# Altium integrated library NSC Interface.IntLib: 1288 symbols (part 23 of 45)
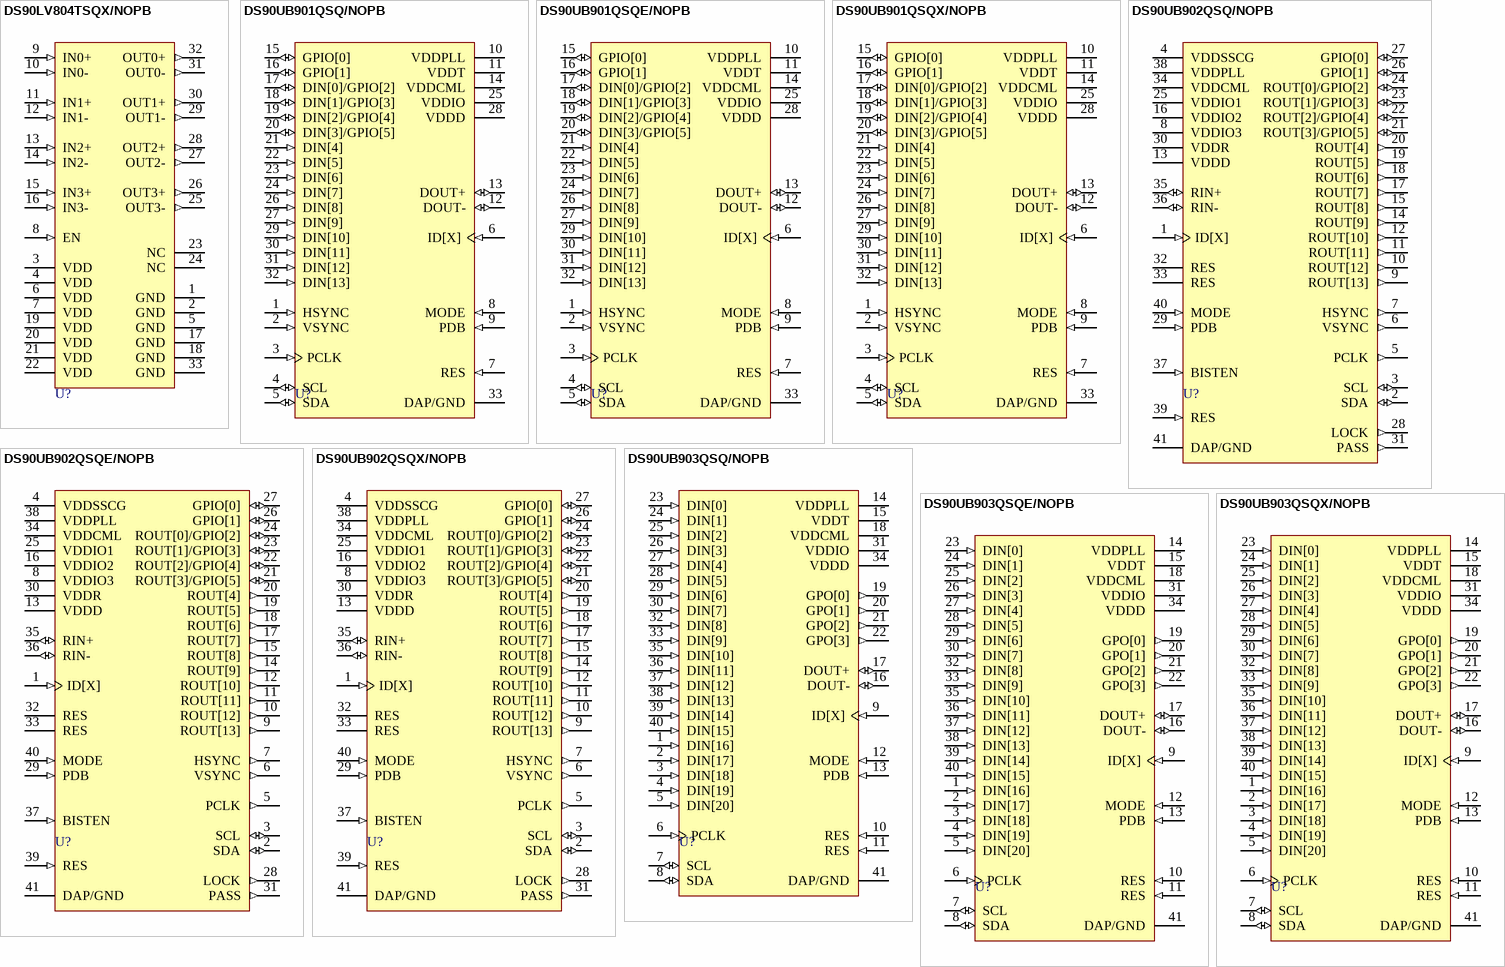
[diagram p134: symbols DS90LV804TSQX/NOPB to DS90UB903QSQX/NOPB]

## DS90UB902QSQ/NOPB
designator U?
10 - 43MHz 14 Bit Color FPD-Link III Deserializer with Bi-Directional Control Channel, 40 pin LLP; PartNumber: DS90UB902QSQ/NOPB; Manufacturer: National Semiconductor; PackageTopMarking: NS*UZXYTTE#*UB902QSQ; PowerWise: N; CompType: Interface IC; Published: 16-Nov-2010; DatasheetVersion: Sep-2010; PackageVersion: revB, Mar-2004; PackageReference: SQA40A; Publisher: Altium Limited; PackageDescription: LLP, Plastic, Quad, 6 x 6 x 0.8mm Body, 40 Lead, 0.5mm Pitch, No Pullback; RoHS: Y; PinCount: 40; ComponentLink1Description: DS90UB902Q Datasheet; ComponentLink1URL: http://www.national.com/ds/DS/DS90UB902Q.pdf; ComponentLink2Description: DS90UB902Q Web Page; ComponentLink2URL: http://www.national.com/pf/DS/DS90UB902Q.html; ComponentLink3Description: SQA40A Package Page; ComponentLink3URL: http://www.national.com/packaging/folders/sqa40a.html
footprint SQA40A (QFN, 40-Leads, Body 6x6mm, Pitch 0.5mm, NSC Recommended)
pins: 1 ID[X] (in), 2 SDA (io), 3 SCL (io), 4 VDDSSCG (power), 5 PCLK (out), 6 VSYNC (out), 7 HSYNC (out), 8 VDDIO3 (power), 9 ROUT[13] (out), 10 ROUT[12] (out), 11 ROUT[11] (out), 12 ROUT[10] (out), 13 VDDD (power), 14 ROUT[9] (out), 15 ROUT[8] (out), 16 VDDIO2 (power), 17 ROUT[7] (out), 18 ROUT[6] (out), 19 ROUT[5] (out), 20 ROUT[4] (out), 21 ROUT[3]/GPIO[5] (io), 22 ROUT[2]/GPIO[4] (io), 23 ROUT[1]/GPIO[3] (io), 24 ROUT[0]/GPIO[2] (io), 25 VDDIO1 (power), 26 GPIO[1] (io), 27 GPIO[0] (io), 28 LOCK (out), 29 PDB (in), 30 VDDR (power), 31 PASS (out), 32 RES, 33 RES, 34 VDDCML (power), 35 RIN+ (io), 36 RIN- (io), 37 BISTEN (in), 38 VDDPLL (power), 39 RES (in), 40 MODE (in), 41 DAP/GND (power)

## DS90UB902QSQE/NOPB
designator U?
10 - 43MHz 14 Bit Color FPD-Link III Deserializer with Bi-Directional Control Channel, 40 pin LLP; PartNumber: DS90UB902QSQE/NOPB; Manufacturer: National Semiconductor; PackageTopMarking: NS*UZXYTTE#*UB902QSQ; PowerWise: N; CompType: Interface IC; Published: 16-Nov-2010; DatasheetVersion: Sep-2010; PackageVersion: revB, Mar-2004; PackageReference: SQA40A; Publisher: Altium Limited; PackageDescription: LLP, Plastic, Quad, 6 x 6 x 0.8mm Body, 40 Lead, 0.5mm Pitch, No Pullback; RoHS: Y; PinCount: 40; ComponentLink1Description: DS90UB902Q Datasheet; ComponentLink1URL: http://www.national.com/ds/DS/DS90UB902Q.pdf; ComponentLink2Description: DS90UB902Q Web Page; ComponentLink2URL: http://www.national.com/pf/DS/DS90UB902Q.html; ComponentLink3Description: SQA40A Package Page; ComponentLink3URL: http://www.national.com/packaging/folders/sqa40a.html
footprint SQA40A (QFN, 40-Leads, Body 6x6mm, Pitch 0.5mm, NSC Recommended)
pins: 1 ID[X] (in), 2 SDA (io), 3 SCL (io), 4 VDDSSCG (power), 5 PCLK (out), 6 VSYNC (out), 7 HSYNC (out), 8 VDDIO3 (power), 9 ROUT[13] (out), 10 ROUT[12] (out), 11 ROUT[11] (out), 12 ROUT[10] (out), 13 VDDD (power), 14 ROUT[9] (out), 15 ROUT[8] (out), 16 VDDIO2 (power), 17 ROUT[7] (out), 18 ROUT[6] (out), 19 ROUT[5] (out), 20 ROUT[4] (out), 21 ROUT[3]/GPIO[5] (io), 22 ROUT[2]/GPIO[4] (io), 23 ROUT[1]/GPIO[3] (io), 24 ROUT[0]/GPIO[2] (io), 25 VDDIO1 (power), 26 GPIO[1] (io), 27 GPIO[0] (io), 28 LOCK (out), 29 PDB (in), 30 VDDR (power), 31 PASS (out), 32 RES, 33 RES, 34 VDDCML (power), 35 RIN+ (io), 36 RIN- (io), 37 BISTEN (in), 38 VDDPLL (power), 39 RES (in), 40 MODE (in), 41 DAP/GND (power)

## DS90UB902QSQX/NOPB
designator U?
10 - 43MHz 14 Bit Color FPD-Link III Deserializer with Bi-Directional Control Channel, 40 pin LLP; PartNumber: DS90UB902QSQX/NOPB; Manufacturer: National Semiconductor; PackageTopMarking: NS*UZXYTTE#*UB902QSQ; PowerWise: N; CompType: Interface IC; Published: 16-Nov-2010; DatasheetVersion: Sep-2010; PackageVersion: revB, Mar-2004; PackageReference: SQA40A; Publisher: Altium Limited; PackageDescription: LLP, Plastic, Quad, 6 x 6 x 0.8mm Body, 40 Lead, 0.5mm Pitch, No Pullback; RoHS: Y; PinCount: 40; ComponentLink1Description: DS90UB902Q Datasheet; ComponentLink1URL: http://www.national.com/ds/DS/DS90UB902Q.pdf; ComponentLink2Description: DS90UB902Q Web Page; ComponentLink2URL: http://www.national.com/pf/DS/DS90UB902Q.html; ComponentLink3Description: SQA40A Package Page; ComponentLink3URL: http://www.national.com/packaging/folders/sqa40a.html
footprint SQA40A (QFN, 40-Leads, Body 6x6mm, Pitch 0.5mm, NSC Recommended)
pins: 1 ID[X] (in), 2 SDA (io), 3 SCL (io), 4 VDDSSCG (power), 5 PCLK (out), 6 VSYNC (out), 7 HSYNC (out), 8 VDDIO3 (power), 9 ROUT[13] (out), 10 ROUT[12] (out), 11 ROUT[11] (out), 12 ROUT[10] (out), 13 VDDD (power), 14 ROUT[9] (out), 15 ROUT[8] (out), 16 VDDIO2 (power), 17 ROUT[7] (out), 18 ROUT[6] (out), 19 ROUT[5] (out), 20 ROUT[4] (out), 21 ROUT[3]/GPIO[5] (io), 22 ROUT[2]/GPIO[4] (io), 23 ROUT[1]/GPIO[3] (io), 24 ROUT[0]/GPIO[2] (io), 25 VDDIO1 (power), 26 GPIO[1] (io), 27 GPIO[0] (io), 28 LOCK (out), 29 PDB (in), 30 VDDR (power), 31 PASS (out), 32 RES, 33 RES, 34 VDDCML (power), 35 RIN+ (io), 36 RIN- (io), 37 BISTEN (in), 38 VDDPLL (power), 39 RES (in), 40 MODE (in), 41 DAP/GND (power)

## DS90UB903QSQ/NOPB
designator U?
10 - 43MHz 18 Bit Color FPD-Link III Serializer with Bi-Directional Control Channel, 40 pin LLP; PartNumber: DS90UB903QSQ/NOPB; Manufacturer: National Semiconductor; PackageTopMarking: NS*UZXYTTE#*UB903QSQ; PowerWise: N; CompType: Interface IC; Published: 16-Nov-2010; DatasheetVersion: Sep-2010; PackageVersion: revB, Mar-2004; PackageReference: SQA40A; Publisher: Altium Limited; PackageDescription: LLP, Plastic, Quad, 6 x 6 x 0.8mm Body, 40 Lead, 0.5mm Pitch, No Pullback; RoHS: Y; PinCount: 40; ComponentLink1Description: DS90UB903Q Datasheet; ComponentLink1URL: http://www.national.com/ds/DS/DS90UB903Q.pdf; ComponentLink2Description: DS90UB903Q Web Page; ComponentLink2URL: http://www.national.com/pf/DS/DS90UB903Q.html; ComponentLink3Description: SQA40A Package Page; ComponentLink3URL: http://www.national.com/packaging/folders/sqa40a.html
footprint SQA40A (QFN, 40-Leads, Body 6x6mm, Pitch 0.5mm, NSC Recommended)
pins: 1 DIN[16] (in), 2 DIN[17] (in), 3 DIN[18] (in), 4 DIN[19] (in), 5 DIN[20] (in), 6 PCLK (in), 7 SCL (io), 8 SDA (io), 9 ID[X] (in), 10 RES (in), 11 RES (in), 12 MODE (in), 13 PDB (in), 14 VDDPLL (power), 15 VDDT (power), 16 DOUT- (io), 17 DOUT+ (io), 18 VDDCML (power), 19 GPO[0] (out), 20 GPO[1] (out), 21 GPO[2] (out), 22 GPO[3] (out), 23 DIN[0] (in), 24 DIN[1] (in), 25 DIN[2] (in), 26 DIN[3] (in), 27 DIN[4] (in), 28 DIN[5] (in), 29 DIN[6] (in), 30 DIN[7] (in), 31 VDDIO (power), 32 DIN[8] (in), 33 DIN[9] (in), 34 VDDD (power), 35 DIN[10] (in), 36 DIN[11] (in), 37 DIN[12] (in), 38 DIN[13] (in), 39 DIN[14] (in), 40 DIN[15] (in), 41 DAP/GND (power)

## DS90UB903QSQE/NOPB
designator U?
10 - 43MHz 18 Bit Color FPD-Link III Serializer with Bi-Directional Control Channel, 40 pin LLP; PartNumber: DS90UB903QSQE/NOPB; Manufacturer: National Semiconductor; PackageTopMarking: NS*UZXYTTE#*UB903QSQ; PowerWise: N; CompType: Interface IC; Published: 16-Nov-2010; DatasheetVersion: Sep-2010; PackageVersion: revB, Mar-2004; PackageReference: SQA40A; Publisher: Altium Limited; PackageDescription: LLP, Plastic, Quad, 6 x 6 x 0.8mm Body, 40 Lead, 0.5mm Pitch, No Pullback; RoHS: Y; PinCount: 40; ComponentLink1Description: DS90UB903Q Datasheet; ComponentLink1URL: http://www.national.com/ds/DS/DS90UB903Q.pdf; ComponentLink2Description: DS90UB903Q Web Page; ComponentLink2URL: http://www.national.com/pf/DS/DS90UB903Q.html; ComponentLink3Description: SQA40A Package Page; ComponentLink3URL: http://www.national.com/packaging/folders/sqa40a.html
footprint SQA40A (QFN, 40-Leads, Body 6x6mm, Pitch 0.5mm, NSC Recommended)
pins: 1 DIN[16] (in), 2 DIN[17] (in), 3 DIN[18] (in), 4 DIN[19] (in), 5 DIN[20] (in), 6 PCLK (in), 7 SCL (io), 8 SDA (io), 9 ID[X] (in), 10 RES (in), 11 RES (in), 12 MODE (in), 13 PDB (in), 14 VDDPLL (power), 15 VDDT (power), 16 DOUT- (io), 17 DOUT+ (io), 18 VDDCML (power), 19 GPO[0] (out), 20 GPO[1] (out), 21 GPO[2] (out), 22 GPO[3] (out), 23 DIN[0] (in), 24 DIN[1] (in), 25 DIN[2] (in), 26 DIN[3] (in), 27 DIN[4] (in), 28 DIN[5] (in), 29 DIN[6] (in), 30 DIN[7] (in), 31 VDDIO (power), 32 DIN[8] (in), 33 DIN[9] (in), 34 VDDD (power), 35 DIN[10] (in), 36 DIN[11] (in), 37 DIN[12] (in), 38 DIN[13] (in), 39 DIN[14] (in), 40 DIN[15] (in), 41 DAP/GND (power)

## DS90UB903QSQX/NOPB
designator U?
10 - 43MHz 18 Bit Color FPD-Link III Serializer with Bi-Directional Control Channel, 40 pin LLP; PartNumber: DS90UB903QSQX/NOPB; Manufacturer: National Semiconductor; PackageTopMarking: NS*UZXYTTE#*UB903QSQ; PowerWise: N; CompType: Interface IC; Published: 16-Nov-2010; DatasheetVersion: Sep-2010; PackageVersion: revB, Mar-2004; PackageReference: SQA40A; Publisher: Altium Limited; PackageDescription: LLP, Plastic, Quad, 6 x 6 x 0.8mm Body, 40 Lead, 0.5mm Pitch, No Pullback; RoHS: Y; PinCount: 40; ComponentLink1Description: DS90UB903Q Datasheet; ComponentLink1URL: http://www.national.com/ds/DS/DS90UB903Q.pdf; ComponentLink2Description: DS90UB903Q Web Page; ComponentLink2URL: http://www.national.com/pf/DS/DS90UB903Q.html; ComponentLink3Description: SQA40A Package Page; ComponentLink3URL: http://www.national.com/packaging/folders/sqa40a.html
footprint SQA40A (QFN, 40-Leads, Body 6x6mm, Pitch 0.5mm, NSC Recommended)
pins: 1 DIN[16] (in), 2 DIN[17] (in), 3 DIN[18] (in), 4 DIN[19] (in), 5 DIN[20] (in), 6 PCLK (in), 7 SCL (io), 8 SDA (io), 9 ID[X] (in), 10 RES (in), 11 RES (in), 12 MODE (in), 13 PDB (in), 14 VDDPLL (power), 15 VDDT (power), 16 DOUT- (io), 17 DOUT+ (io), 18 VDDCML (power), 19 GPO[0] (out), 20 GPO[1] (out), 21 GPO[2] (out), 22 GPO[3] (out), 23 DIN[0] (in), 24 DIN[1] (in), 25 DIN[2] (in), 26 DIN[3] (in), 27 DIN[4] (in), 28 DIN[5] (in), 29 DIN[6] (in), 30 DIN[7] (in), 31 VDDIO (power), 32 DIN[8] (in), 33 DIN[9] (in), 34 VDDD (power), 35 DIN[10] (in), 36 DIN[11] (in), 37 DIN[12] (in), 38 DIN[13] (in), 39 DIN[14] (in), 40 DIN[15] (in), 41 DAP/GND (power)

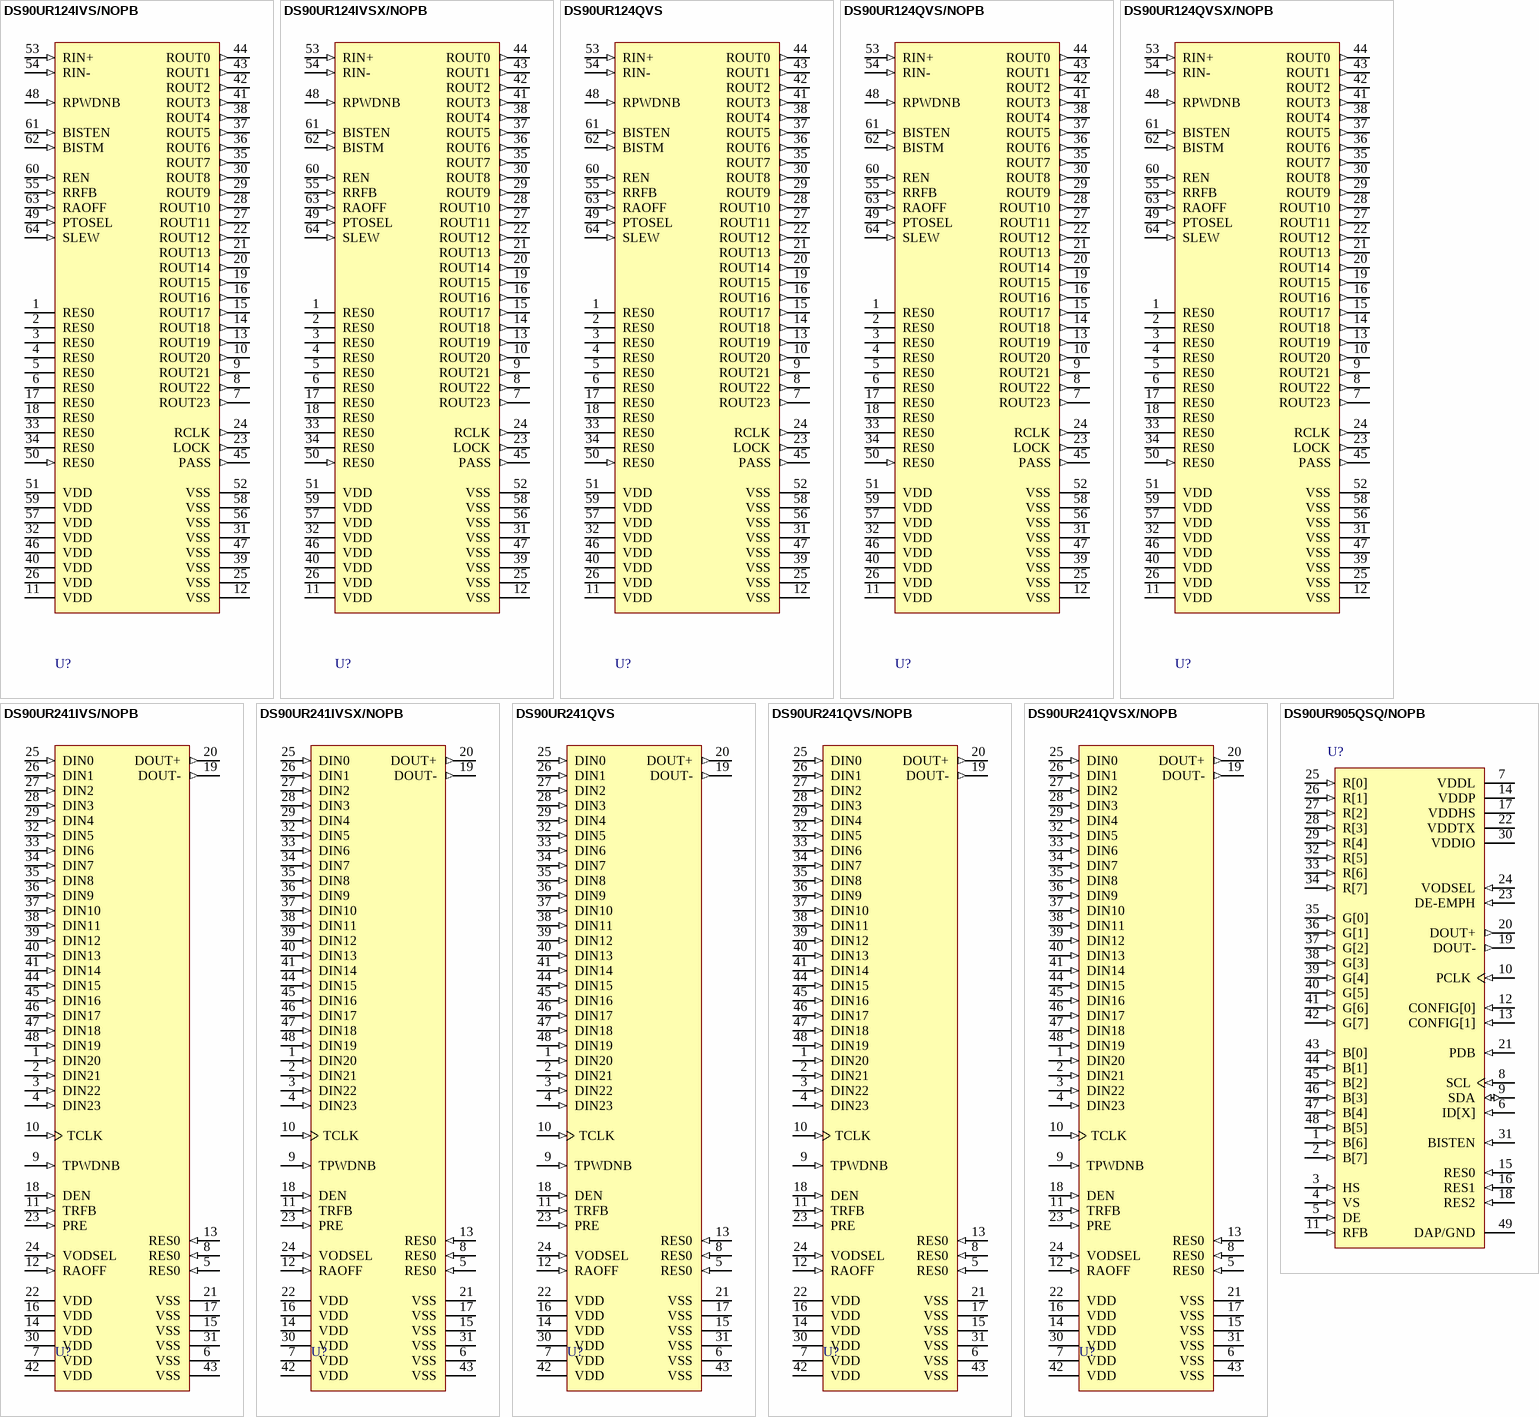
[diagram p61: symbols DS90UR124IVS/NOPB to DS90UR905QSQ/NOPB]

## DS90UR124IVS/NOPB
designator U?
5-43MHz DC-Balanced 24-Bit FPD-Link II Deserializer, 64 pin TQFP; PartNumber: DS90UR124IVS/NOPB; Manufacturer: National Semiconductor; PackageTopMarking: NSUZXYYTTE#*DS90UR124*IVS; PowerWise: N; CompType: Interface IC; Published: 16-Nov-2010; DatasheetVersion: Sep-2009; PackageVersion: revB, Jul-2003; PackageReference: VEC64A; Publisher: Altium Limited; PackageDescription: TQFP, Jedec Metric, 10 x 10 x 1.0mm, 64 Lead, 0.5mm Pitch; Supplier 1: Digi-Key; Supplier Part Number 1: DS90UR124IVS-ND; Supplier 2: Farnell; Supplier Part Number 2: 1559270; RoHS: Y; PinCount: 64; Code_JEDEC: MS-026-ACD; ComponentLink1Description: DS90UR124 Datasheet; ComponentLink1URL: http://www.national.com/ds/DS/DS90UR124.pdf; ComponentLink2Description: DS90UR124 Web Page; ComponentLink2URL: http://www.national.com/pf/DS/DS90UR124.html; ComponentLink3Description: VEC64A Package Page; ComponentLink3URL: http://www.national.com/packaging/folders/vec64a.html
footprint VEC64A_N (Thin QFP, 64-Leads, Body 10x10mm, Pitch 0.5mm, IPC Medium Density)
footprint VEC64A_L (Thin QFP, 64-Leads, Body 10x10mm, Pitch 0.5mm, IPC High Density)
footprint VEC64A_M (Thin QFP, 64-Leads, Body 10x10mm, Pitch 0.5mm, IPC Low Density)
pins: 1 RES0, 2 RES0, 3 RES0, 4 RES0, 5 RES0, 6 RES0, 7 ROUT23 (out), 8 ROUT22 (out), 9 ROUT21 (out), 10 ROUT20 (out), 11 VDD (power), 12 VSS (power), 13 ROUT19 (out), 14 ROUT18 (out), 15 ROUT17 (out), 16 ROUT16 (out), 17 RES0, 18 RES0, 19 ROUT15 (out), 20 ROUT14 (out), 21 ROUT13 (out), 22 ROUT12 (out), 23 LOCK (out), 24 RCLK (out), 25 VSS (power), 26 VDD (power), 27 ROUT11 (out), 28 ROUT10 (out), 29 ROUT9 (out), 30 ROUT8 (out), 31 VSS (power), 32 VDD (power), 33 RES0, 34 RES0, 35 ROUT7 (out), 36 ROUT6 (out), 37 ROUT5 (out), 38 ROUT4 (out), 39 VSS (power), 40 VDD (power), 41 ROUT3 (out), 42 ROUT2 (out), 43 ROUT1 (out), 44 ROUT0 (out), 45 PASS (out), 46 VDD (power), 47 VSS (power), 48 RPWDNB (in), 49 PTOSEL (in), 50 RES0 (in), 51 VDD (power), 52 VSS (power), 53 RIN+ (in), 54 RIN- (in), 55 RRFB (in), 56 VSS (power), 57 VDD (power), 58 VSS (power), 59 VDD (power), 60 REN (in), 61 BISTEN (in), 62 BISTM (in), 63 RAOFF (in), 64 SLEW (in)

## DS90UR124IVSX/NOPB
designator U?
5-43MHz DC-Balanced 24-Bit FPD-Link II Deserializer, 64 pin TQFP; PartNumber: DS90UR124IVSX/NOPB; Manufacturer: National Semiconductor; PackageTopMarking: NSUZXYYTTE#*DS90UR124*IVS; PowerWise: N; CompType: Interface IC; Published: 16-Nov-2010; DatasheetVersion: Sep-2009; PackageVersion: revB, Jul-2003; PackageReference: VEC64A; Publisher: Altium Limited; PackageDescription: TQFP, Jedec Metric, 10 x 10 x 1.0mm, 64 Lead, 0.5mm Pitch; Supplier 1: Digi-Key; Supplier Part Number 1: DS90UR124IVSX-ND; RoHS: Y; PinCount: 64; Code_JEDEC: MS-026-ACD; ComponentLink1Description: DS90UR124 Datasheet; ComponentLink1URL: http://www.national.com/ds/DS/DS90UR124.pdf; ComponentLink2Description: DS90UR124 Web Page; ComponentLink2URL: http://www.national.com/pf/DS/DS90UR124.html; ComponentLink3Description: VEC64A Package Page; ComponentLink3URL: http://www.national.com/packaging/folders/vec64a.html
footprint VEC64A_N (Thin QFP, 64-Leads, Body 10x10mm, Pitch 0.5mm, IPC Medium Density)
footprint VEC64A_L (Thin QFP, 64-Leads, Body 10x10mm, Pitch 0.5mm, IPC High Density)
footprint VEC64A_M (Thin QFP, 64-Leads, Body 10x10mm, Pitch 0.5mm, IPC Low Density)
pins: 1 RES0, 2 RES0, 3 RES0, 4 RES0, 5 RES0, 6 RES0, 7 ROUT23 (out), 8 ROUT22 (out), 9 ROUT21 (out), 10 ROUT20 (out), 11 VDD (power), 12 VSS (power), 13 ROUT19 (out), 14 ROUT18 (out), 15 ROUT17 (out), 16 ROUT16 (out), 17 RES0, 18 RES0, 19 ROUT15 (out), 20 ROUT14 (out), 21 ROUT13 (out), 22 ROUT12 (out), 23 LOCK (out), 24 RCLK (out), 25 VSS (power), 26 VDD (power), 27 ROUT11 (out), 28 ROUT10 (out), 29 ROUT9 (out), 30 ROUT8 (out), 31 VSS (power), 32 VDD (power), 33 RES0, 34 RES0, 35 ROUT7 (out), 36 ROUT6 (out), 37 ROUT5 (out), 38 ROUT4 (out), 39 VSS (power), 40 VDD (power), 41 ROUT3 (out), 42 ROUT2 (out), 43 ROUT1 (out), 44 ROUT0 (out), 45 PASS (out), 46 VDD (power), 47 VSS (power), 48 RPWDNB (in), 49 PTOSEL (in), 50 RES0 (in), 51 VDD (power), 52 VSS (power), 53 RIN+ (in), 54 RIN- (in), 55 RRFB (in), 56 VSS (power), 57 VDD (power), 58 VSS (power), 59 VDD (power), 60 REN (in), 61 BISTEN (in), 62 BISTM (in), 63 RAOFF (in), 64 SLEW (in)

## DS90UR124QVS
designator U?
5-43MHz DC- Balanced 24-Bit LVDS Deserializer, 64-pin TQFP; PartNumber: DS90UR124QVS; Manufacturer: National Semiconductor; PackageTopMarking: NSUZXYYTT*DS90UR124*QVS; PowerWise: N; CompType: Interface IC; Published: 4-Dec-2008; DatasheetVersion: Sep-2009; PackageVersion: revB, Jul-2003; PackageReference: VEC64A; Publisher: Altium Limited; PackageDescription: TQFP, Jedec Metric, 10 x 10 x 1.0mm, 64 Lead, 0.5mm Pitch; Supplier 1: Farnell; Supplier Part Number 1: 1589516; RoHS: Y; PinCount: 64; Code_JEDEC: MS-026-ACD; ComponentLink1Description: DS90UR124 Datasheet; ComponentLink1URL: http://www.national.com/ds/DS/DS90UR124.pdf; ComponentLink2Description: DS90UR124 Web Page; ComponentLink2URL: http://www.national.com/pf/DS/DS90UR124.html; ComponentLink3Description: VEC64A Package Page; ComponentLink3URL: http://www.national.com/packaging/folders/vec64a.html
footprint VEC64A_N (Thin QFP, 64-Leads, Body 10x10mm, Pitch 0.5mm, IPC Medium Density)
footprint VEC64A_L (Thin QFP, 64-Leads, Body 10x10mm, Pitch 0.5mm, IPC High Density)
footprint VEC64A_M (Thin QFP, 64-Leads, Body 10x10mm, Pitch 0.5mm, IPC Low Density)
pins: 1 RES0, 2 RES0, 3 RES0, 4 RES0, 5 RES0, 6 RES0, 7 ROUT23 (out), 8 ROUT22 (out), 9 ROUT21 (out), 10 ROUT20 (out), 11 VDD (power), 12 VSS (power), 13 ROUT19 (out), 14 ROUT18 (out), 15 ROUT17 (out), 16 ROUT16 (out), 17 RES0, 18 RES0, 19 ROUT15 (out), 20 ROUT14 (out), 21 ROUT13 (out), 22 ROUT12 (out), 23 LOCK (out), 24 RCLK (out), 25 VSS (power), 26 VDD (power), 27 ROUT11 (out), 28 ROUT10 (out), 29 ROUT9 (out), 30 ROUT8 (out), 31 VSS (power), 32 VDD (power), 33 RES0, 34 RES0, 35 ROUT7 (out), 36 ROUT6 (out), 37 ROUT5 (out), 38 ROUT4 (out), 39 VSS (power), 40 VDD (power), 41 ROUT3 (out), 42 ROUT2 (out), 43 ROUT1 (out), 44 ROUT0 (out), 45 PASS (out), 46 VDD (power), 47 VSS (power), 48 RPWDNB (in), 49 PTOSEL (in), 50 RES0 (in), 51 VDD (power), 52 VSS (power), 53 RIN+ (in), 54 RIN- (in), 55 RRFB (in), 56 VSS (power), 57 VDD (power), 58 VSS (power), 59 VDD (power), 60 REN (in), 61 BISTEN (in), 62 BISTM (in), 63 RAOFF (in), 64 SLEW (in)

## DS90UR124QVS/NOPB
designator U?
5-43MHz DC-Balanced 24-Bit FPD-Link II Deserializer, 64-pin TQFP, Pb-Free; PartNumber: DS90UR124QVS/NOPB; Manufacturer: National Semiconductor; PackageTopMarking: NSUZXYYTTE#*DS90UR124*QVS; PowerWise: N; CompType: Interface IC; Published: 1-Mar-2010; DatasheetVersion: Sep-2009; PackageVersion: revB, Jul-2003; PackageReference: VEC64A; Publisher: Altium Limited; PackageDescription: TQFP, Jedec Metric, 10 x 10 x 1.0mm, 64 Lead, 0.5mm Pitch; Supplier 1: Digi-Key; Supplier Part Number 1: DS90UR124QVS-ND; Supplier 2: Farnell; Supplier Part Number 2: 1693885; RoHS: Y; PinCount: 64; Code_JEDEC: MS-026-ACD; ComponentLink1Description: DS90UR124 Datasheet; ComponentLink1URL: http://www.national.com/ds/DS/DS90UR124.pdf; ComponentLink2Description: DS90UR124 Web Page; ComponentLink2URL: http://www.national.com/pf/DS/DS90UR124.html; ComponentLink3Description: VEC64A Package Page; ComponentLink3URL: http://www.national.com/packaging/folders/vec64a.html
footprint VEC64A_N (Thin QFP, 64-Leads, Body 10x10mm, Pitch 0.5mm, IPC Medium Density)
footprint VEC64A_L (Thin QFP, 64-Leads, Body 10x10mm, Pitch 0.5mm, IPC High Density)
footprint VEC64A_M (Thin QFP, 64-Leads, Body 10x10mm, Pitch 0.5mm, IPC Low Density)
pins: 1 RES0, 2 RES0, 3 RES0, 4 RES0, 5 RES0, 6 RES0, 7 ROUT23 (out), 8 ROUT22 (out), 9 ROUT21 (out), 10 ROUT20 (out), 11 VDD (power), 12 VSS (power), 13 ROUT19 (out), 14 ROUT18 (out), 15 ROUT17 (out), 16 ROUT16 (out), 17 RES0, 18 RES0, 19 ROUT15 (out), 20 ROUT14 (out), 21 ROUT13 (out), 22 ROUT12 (out), 23 LOCK (out), 24 RCLK (out), 25 VSS (power), 26 VDD (power), 27 ROUT11 (out), 28 ROUT10 (out), 29 ROUT9 (out), 30 ROUT8 (out), 31 VSS (power), 32 VDD (power), 33 RES0, 34 RES0, 35 ROUT7 (out), 36 ROUT6 (out), 37 ROUT5 (out), 38 ROUT4 (out), 39 VSS (power), 40 VDD (power), 41 ROUT3 (out), 42 ROUT2 (out), 43 ROUT1 (out), 44 ROUT0 (out), 45 PASS (out), 46 VDD (power), 47 VSS (power), 48 RPWDNB (in), 49 PTOSEL (in), 50 RES0 (in), 51 VDD (power), 52 VSS (power), 53 RIN+ (in), 54 RIN- (in), 55 RRFB (in), 56 VSS (power), 57 VDD (power), 58 VSS (power), 59 VDD (power), 60 REN (in), 61 BISTEN (in), 62 BISTM (in), 63 RAOFF (in), 64 SLEW (in)

## DS90UR124QVSX/NOPB
designator U?
5-43MHz DC-Balanced 24-Bit FPD-Link II Deserializer, 64-pin TQFP, Pb-Free; PartNumber: DS90UR124QVSX/NOPB; Manufacturer: National Semiconductor; PackageTopMarking: NSUZXYYTTE#*DS90UR124*QVS; PowerWise: N; CompType: Interface IC; Published: 1-Mar-2010; DatasheetVersion: Sep-2009; PackageVersion: revB, Jul-2003; PackageReference: VEC64A; Publisher: Altium Limited; PackageDescription: TQFP, Jedec Metric, 10 x 10 x 1.0mm, 64 Lead, 0.5mm Pitch; Supplier 1: Digi-Key; Supplier Part Number 1: DS90UR124QVSX-ND; RoHS: Y; PinCount: 64; Code_JEDEC: MS-026-ACD; ComponentLink1Description: DS90UR124 Datasheet; ComponentLink1URL: http://www.national.com/ds/DS/DS90UR124.pdf; ComponentLink2Description: DS90UR124 Web Page; ComponentLink2URL: http://www.national.com/pf/DS/DS90UR124.html; ComponentLink3Description: VEC64A Package Page; ComponentLink3URL: http://www.national.com/packaging/folders/vec64a.html
footprint VEC64A_N (Thin QFP, 64-Leads, Body 10x10mm, Pitch 0.5mm, IPC Medium Density)
footprint VEC64A_L (Thin QFP, 64-Leads, Body 10x10mm, Pitch 0.5mm, IPC High Density)
footprint VEC64A_M (Thin QFP, 64-Leads, Body 10x10mm, Pitch 0.5mm, IPC Low Density)
pins: 1 RES0, 2 RES0, 3 RES0, 4 RES0, 5 RES0, 6 RES0, 7 ROUT23 (out), 8 ROUT22 (out), 9 ROUT21 (out), 10 ROUT20 (out), 11 VDD (power), 12 VSS (power), 13 ROUT19 (out), 14 ROUT18 (out), 15 ROUT17 (out), 16 ROUT16 (out), 17 RES0, 18 RES0, 19 ROUT15 (out), 20 ROUT14 (out), 21 ROUT13 (out), 22 ROUT12 (out), 23 LOCK (out), 24 RCLK (out), 25 VSS (power), 26 VDD (power), 27 ROUT11 (out), 28 ROUT10 (out), 29 ROUT9 (out), 30 ROUT8 (out), 31 VSS (power), 32 VDD (power), 33 RES0, 34 RES0, 35 ROUT7 (out), 36 ROUT6 (out), 37 ROUT5 (out), 38 ROUT4 (out), 39 VSS (power), 40 VDD (power), 41 ROUT3 (out), 42 ROUT2 (out), 43 ROUT1 (out), 44 ROUT0 (out), 45 PASS (out), 46 VDD (power), 47 VSS (power), 48 RPWDNB (in), 49 PTOSEL (in), 50 RES0 (in), 51 VDD (power), 52 VSS (power), 53 RIN+ (in), 54 RIN- (in), 55 RRFB (in), 56 VSS (power), 57 VDD (power), 58 VSS (power), 59 VDD (power), 60 REN (in), 61 BISTEN (in), 62 BISTM (in), 63 RAOFF (in), 64 SLEW (in)

## DS90UR241IVS/NOPB
designator U?
5-43MHz DC-Balanced 24-Bit FPD-Link II Serializer, 48 pin TQFP; PartNumber: DS90UR241IVS/NOPB; Manufacturer: National Semiconductor; PackageTopMarking: NSUZXYTT*DS90UR24*1IVS; PowerWise: N; CompType: Interface IC; Published: 16-Nov-2010; DatasheetVersion: Sep-2009; PackageVersion: revA, Apr-2000; PackageReference: VBC48A; Publisher: Altium Limited; PackageDescription: TQFP, Jedec Metric, 7 x 7 x 1mm, 48 Lead, 0.5mm Pitch; Supplier 1: Digi-Key; Supplier Part Number 1: DS90UR241IVS-ND; Supplier 2: Digi-Key; Supplier Part Number 2: DS90UR241IVSTR-ND; Supplier 3: Farnell; Supplier Part Number 3: 1564770; RoHS: Y; PinCount: 48; Code_JEDEC: MS-026-ABC; ComponentLink1Description: DS90UR241 Datasheet; ComponentLink1URL: http://www.national.com/ds/DS/DS90UR241.pdf; ComponentLink2Description: DS90UR241 Web Page; ComponentLink2URL: http://www.national.com/pf/DS/DS90UR241.html; ComponentLink3Description: VBC48A Package Page; ComponentLink3URL: http://www.national.com/packaging/folders/vbc48a.html
footprint VBC48A_N (Thin QFP, 48-Leads, Body 7x7mm, Pitch 0.5mm, IPC Medium Density)
footprint VBC48A_L (Thin QFP, 48-Leads, Body 7x7mm, Pitch 0.5mm, IPC High Density)
footprint VBC48A_M (Thin QFP, 48-Leads, Body 7x7mm, Pitch 0.5mm, IPC Low Density)
pins: 1 DIN20 (in), 2 DIN21 (in), 3 DIN22 (in), 4 DIN23 (in), 5 RES0 (in), 6 VSS (power), 7 VDD (power), 8 RES0 (in), 9 TPWDNB (in), 10 TCLK (in), 11 TRFB (in), 12 RAOFF (in), 13 RES0 (in), 14 VDD (power), 15 VSS (power), 16 VDD (power), 17 VSS (power), 18 DEN (in), 19 DOUT- (out), 20 DOUT+ (out), 21 VSS (power), 22 VDD (power), 23 PRE (in), 24 VODSEL (in), 25 DIN0 (in), 26 DIN1 (in), 27 DIN2 (in), 28 DIN3 (in), 29 DIN4 (in), 30 VDD (power), 31 VSS (power), 32 DIN5 (in), 33 DIN6 (in), 34 DIN7 (in), 35 DIN8 (in), 36 DIN9 (in), 37 DIN10 (in), 38 DIN11 (in), 39 DIN12 (in), 40 DIN13 (in), 41 DIN14 (in), 42 VDD (power), 43 VSS (power), 44 DIN15 (in), 45 DIN16 (in), 46 DIN17 (in), 47 DIN18 (in), 48 DIN19 (in)

## DS90UR241IVSX/NOPB
designator U?
5-43MHz DC-Balanced 24-Bit FPD-Link II Serializer, 48 pin TQFP; PartNumber: DS90UR241IVSX/NOPB; Manufacturer: National Semiconductor; PackageTopMarking: NSUZXYTT*DS90UR24*1IVS; PowerWise: N; CompType: Interface IC; Published: 16-Nov-2010; DatasheetVersion: Sep-2009; PackageVersion: revA, Apr-2000; PackageReference: VBC48A; Publisher: Altium Limited; PackageDescription: TQFP, Jedec Metric, 7 x 7 x 1mm, 48 Lead, 0.5mm Pitch; Supplier 1: Digi-Key; Supplier Part Number 1: DS90UR241IVSX-ND; RoHS: Y; PinCount: 48; Code_JEDEC: MS-026-ABC; ComponentLink1Description: DS90UR241 Datasheet; ComponentLink1URL: http://www.national.com/ds/DS/DS90UR241.pdf; ComponentLink2Description: DS90UR241 Web Page; ComponentLink2URL: http://www.national.com/pf/DS/DS90UR241.html; ComponentLink3Description: VBC48A Package Page; ComponentLink3URL: http://www.national.com/packaging/folders/vbc48a.html
footprint VBC48A_N (Thin QFP, 48-Leads, Body 7x7mm, Pitch 0.5mm, IPC Medium Density)
footprint VBC48A_L (Thin QFP, 48-Leads, Body 7x7mm, Pitch 0.5mm, IPC High Density)
footprint VBC48A_M (Thin QFP, 48-Leads, Body 7x7mm, Pitch 0.5mm, IPC Low Density)
pins: 1 DIN20 (in), 2 DIN21 (in), 3 DIN22 (in), 4 DIN23 (in), 5 RES0 (in), 6 VSS (power), 7 VDD (power), 8 RES0 (in), 9 TPWDNB (in), 10 TCLK (in), 11 TRFB (in), 12 RAOFF (in), 13 RES0 (in), 14 VDD (power), 15 VSS (power), 16 VDD (power), 17 VSS (power), 18 DEN (in), 19 DOUT- (out), 20 DOUT+ (out), 21 VSS (power), 22 VDD (power), 23 PRE (in), 24 VODSEL (in), 25 DIN0 (in), 26 DIN1 (in), 27 DIN2 (in), 28 DIN3 (in), 29 DIN4 (in), 30 VDD (power), 31 VSS (power), 32 DIN5 (in), 33 DIN6 (in), 34 DIN7 (in), 35 DIN8 (in), 36 DIN9 (in), 37 DIN10 (in), 38 DIN11 (in), 39 DIN12 (in), 40 DIN13 (in), 41 DIN14 (in), 42 VDD (power), 43 VSS (power), 44 DIN15 (in), 45 DIN16 (in), 46 DIN17 (in), 47 DIN18 (in), 48 DIN19 (in)

## DS90UR241QVS
designator U?
5-43MHz DC- Balanced 24-Bit LVDS Serializer, 48-pin TQFP; PartNumber: DS90UR241QVS; Manufacturer: National Semiconductor; PackageTopMarking: NSUZXYTT*DS90UR24*1QVS; PowerWise: N; CompType: Interface IC; Published: 4-Dec-2008; DatasheetVersion: Sep-2009; PackageVersion: revA, Apr-2000; PackageReference: VBC48A; Publisher: Altium Limited; PackageDescription: TQFP, Jedec Metric, 7 x 7 x 1mm, 48 Lead, 0.5mm Pitch; Supplier 1: Farnell; Supplier Part Number 1: 1589514; RoHS: Y; PinCount: 48; Code_JEDEC: MS-026-ABC; ComponentLink1Description: DS90UR241 Datasheet; ComponentLink1URL: http://www.national.com/ds/DS/DS90UR241.pdf; ComponentLink2Description: DS90UR241 Web Page; ComponentLink2URL: http://www.national.com/pf/DS/DS90UR241.html; ComponentLink3Description: VBC48A Package Page; ComponentLink3URL: http://www.national.com/packaging/folders/vbc48a.html
footprint VBC48A_N (Thin QFP, 48-Leads, Body 7x7mm, Pitch 0.5mm, IPC Medium Density)
footprint VBC48A_L (Thin QFP, 48-Leads, Body 7x7mm, Pitch 0.5mm, IPC High Density)
footprint VBC48A_M (Thin QFP, 48-Leads, Body 7x7mm, Pitch 0.5mm, IPC Low Density)
pins: 1 DIN20 (in), 2 DIN21 (in), 3 DIN22 (in), 4 DIN23 (in), 5 RES0 (in), 6 VSS (power), 7 VDD (power), 8 RES0 (in), 9 TPWDNB (in), 10 TCLK (in), 11 TRFB (in), 12 RAOFF (in), 13 RES0 (in), 14 VDD (power), 15 VSS (power), 16 VDD (power), 17 VSS (power), 18 DEN (in), 19 DOUT- (out), 20 DOUT+ (out), 21 VSS (power), 22 VDD (power), 23 PRE (in), 24 VODSEL (in), 25 DIN0 (in), 26 DIN1 (in), 27 DIN2 (in), 28 DIN3 (in), 29 DIN4 (in), 30 VDD (power), 31 VSS (power), 32 DIN5 (in), 33 DIN6 (in), 34 DIN7 (in), 35 DIN8 (in), 36 DIN9 (in), 37 DIN10 (in), 38 DIN11 (in), 39 DIN12 (in), 40 DIN13 (in), 41 DIN14 (in), 42 VDD (power), 43 VSS (power), 44 DIN15 (in), 45 DIN16 (in), 46 DIN17 (in), 47 DIN18 (in), 48 DIN19 (in)

## DS90UR241QVS/NOPB
designator U?
5-43MHz DC-Balanced 24-Bit FPD-Link II Serializer, 48-pin TQFP, Pb-Free; PartNumber: DS90UR241QVS/NOPB; Manufacturer: National Semiconductor; PackageTopMarking: NSUZXYTT*DS90UR24*1QVS; PowerWise: N; CompType: Interface IC; Published: 1-Mar-2010; DatasheetVersion: Sep-2009; PackageVersion: revA, Apr-2000; PackageReference: VBC48A; Publisher: Altium Limited; PackageDescription: TQFP, Jedec Metric, 7 x 7 x 1mm, 48 Lead, 0.5mm Pitch; Supplier 1: Farnell; Supplier Part Number 1: 1693886; RoHS: Y; PinCount: 48; Code_JEDEC: MS-026-ABC; ComponentLink1Description: DS90UR241 Datasheet; ComponentLink1URL: http://www.national.com/ds/DS/DS90UR241.pdf; ComponentLink2Description: DS90UR241 Web Page; ComponentLink2URL: http://www.national.com/pf/DS/DS90UR241.html; ComponentLink3Description: VBC48A Package Page; ComponentLink3URL: http://www.national.com/packaging/folders/vbc48a.html
footprint VBC48A_N (Thin QFP, 48-Leads, Body 7x7mm, Pitch 0.5mm, IPC Medium Density)
footprint VBC48A_L (Thin QFP, 48-Leads, Body 7x7mm, Pitch 0.5mm, IPC High Density)
footprint VBC48A_M (Thin QFP, 48-Leads, Body 7x7mm, Pitch 0.5mm, IPC Low Density)
pins: 1 DIN20 (in), 2 DIN21 (in), 3 DIN22 (in), 4 DIN23 (in), 5 RES0 (in), 6 VSS (power), 7 VDD (power), 8 RES0 (in), 9 TPWDNB (in), 10 TCLK (in), 11 TRFB (in), 12 RAOFF (in), 13 RES0 (in), 14 VDD (power), 15 VSS (power), 16 VDD (power), 17 VSS (power), 18 DEN (in), 19 DOUT- (out), 20 DOUT+ (out), 21 VSS (power), 22 VDD (power), 23 PRE (in), 24 VODSEL (in), 25 DIN0 (in), 26 DIN1 (in), 27 DIN2 (in), 28 DIN3 (in), 29 DIN4 (in), 30 VDD (power), 31 VSS (power), 32 DIN5 (in), 33 DIN6 (in), 34 DIN7 (in), 35 DIN8 (in), 36 DIN9 (in), 37 DIN10 (in), 38 DIN11 (in), 39 DIN12 (in), 40 DIN13 (in), 41 DIN14 (in), 42 VDD (power), 43 VSS (power), 44 DIN15 (in), 45 DIN16 (in), 46 DIN17 (in), 47 DIN18 (in), 48 DIN19 (in)

## DS90UR241QVSX/NOPB
designator U?
5-43MHz DC-Balanced 24-Bit FPD-Link II Serializer, 48-pin TQFP, Pb-Free; PartNumber: DS90UR241QVSX/NOPB; Manufacturer: National Semiconductor; PackageTopMarking: NSUZXYTT*DS90UR24*1QVS; PowerWise: N; CompType: Interface IC; Published: 1-Mar-2010; DatasheetVersion: Sep-2009; PackageVersion: revA, Apr-2000; PackageReference: VBC48A; Publisher: Altium Limited; PackageDescription: TQFP, Jedec Metric, 7 x 7 x 1mm, 48 Lead, 0.5mm Pitch; RoHS: Y; PinCount: 48; Code_JEDEC: MS-026-ABC; ComponentLink1Description: DS90UR241 Datasheet; ComponentLink1URL: http://www.national.com/ds/DS/DS90UR241.pdf; ComponentLink2Description: DS90UR241 Web Page; ComponentLink2URL: http://www.national.com/pf/DS/DS90UR241.html; ComponentLink3Description: VBC48A Package Page; ComponentLink3URL: http://www.national.com/packaging/folders/vbc48a.html
footprint VBC48A_N (Thin QFP, 48-Leads, Body 7x7mm, Pitch 0.5mm, IPC Medium Density)
footprint VBC48A_L (Thin QFP, 48-Leads, Body 7x7mm, Pitch 0.5mm, IPC High Density)
footprint VBC48A_M (Thin QFP, 48-Leads, Body 7x7mm, Pitch 0.5mm, IPC Low Density)
pins: 1 DIN20 (in), 2 DIN21 (in), 3 DIN22 (in), 4 DIN23 (in), 5 RES0 (in), 6 VSS (power), 7 VDD (power), 8 RES0 (in), 9 TPWDNB (in), 10 TCLK (in), 11 TRFB (in), 12 RAOFF (in), 13 RES0 (in), 14 VDD (power), 15 VSS (power), 16 VDD (power), 17 VSS (power), 18 DEN (in), 19 DOUT- (out), 20 DOUT+ (out), 21 VSS (power), 22 VDD (power), 23 PRE (in), 24 VODSEL (in), 25 DIN0 (in), 26 DIN1 (in), 27 DIN2 (in), 28 DIN3 (in), 29 DIN4 (in), 30 VDD (power), 31 VSS (power), 32 DIN5 (in), 33 DIN6 (in), 34 DIN7 (in), 35 DIN8 (in), 36 DIN9 (in), 37 DIN10 (in), 38 DIN11 (in), 39 DIN12 (in), 40 DIN13 (in), 41 DIN14 (in), 42 VDD (power), 43 VSS (power), 44 DIN15 (in), 45 DIN16 (in), 46 DIN17 (in), 47 DIN18 (in), 48 DIN19 (in)

## DS90UR905QSQ/NOPB
designator U?
5-65MHz 24-bit Color FPD-Link II Serializer, 48 pin LLP; PartNumber: DS90UR905QSQ/NOPB; Manufacturer: National Semiconductor; PackageTopMarking: NS*UZXYTTE#*UR905QSQ; PowerWise: Y; CompType: Interface IC; Published: 16-Nov-2010; DatasheetVersion: May-2010; PackageVersion: revB, May-2009; PackageReference: SQA48A; Publisher: Altium Limited; PackageDescription: LLP, Plastic, Quad, 7 x 7 x 0.8mm Body, 48 Lead, 0.5mm Pitch, No Pullback; Supplier 1: Digi-Key; Supplier Part Number 1: DS90UR905QSQ/NOPB-ND; RoHS: Y; PinCount: 48; Code_JEDEC: MO-220-WKKD-2; ComponentLink1Description: DS90UR905Q Datasheet; ComponentLink1URL: http://www.national.com/ds/DS/DS90UR905Q.pdf; ComponentLink2Description: DS90UR905Q Web Page; ComponentLink2URL: http://www.national.com/pf/DS/DS90UR905Q.html; ComponentLink3Description: SQA48A Package Page; ComponentLink3URL: http://www.national.com/packaging/folders/sqa48a.html
footprint SQA48A (QFN, 48-Leads, Body 7x7mm, Pitch 0.5mm, NSC Recommended)
pins: 1 B[6] (in), 2 B[7] (in), 3 HS (in), 4 VS (in), 5 DE (in), 6 ID[X] (in), 7 VDDL (power), 8 SCL (in), 9 SDA (io), 10 PCLK (in), 11 RFB (in), 12 CONFIG[0] (in), 13 CONFIG[1] (in), 14 VDDP (power), 15 RES0 (in), 16 RES1 (in), 17 VDDHS (power), 18 RES2 (in), 19 DOUT- (out), 20 DOUT+ (out), 21 PDB (in), 22 VDDTX (power), 23 DE-EMPH (in), 24 VODSEL (in), 25 R[0] (in), 26 R[1] (in), 27 R[2] (in), 28 R[3] (in), 29 R[4] (in), 30 VDDIO (power), 31 BISTEN (in), 32 R[5] (in), 33 R[6] (in), 34 R[7] (in), 35 G[0] (in), 36 G[1] (in), 37 G[2] (in), 38 G[3] (in), 39 G[4] (in), 40 G[5] (in), 41 G[6] (in), 42 G[7] (in), 43 B[0] (in), 44 B[1] (in), 45 B[2] (in), 46 B[3] (in), 47 B[4] (in), 48 B[5] (in), 49 DAP/GND (power)

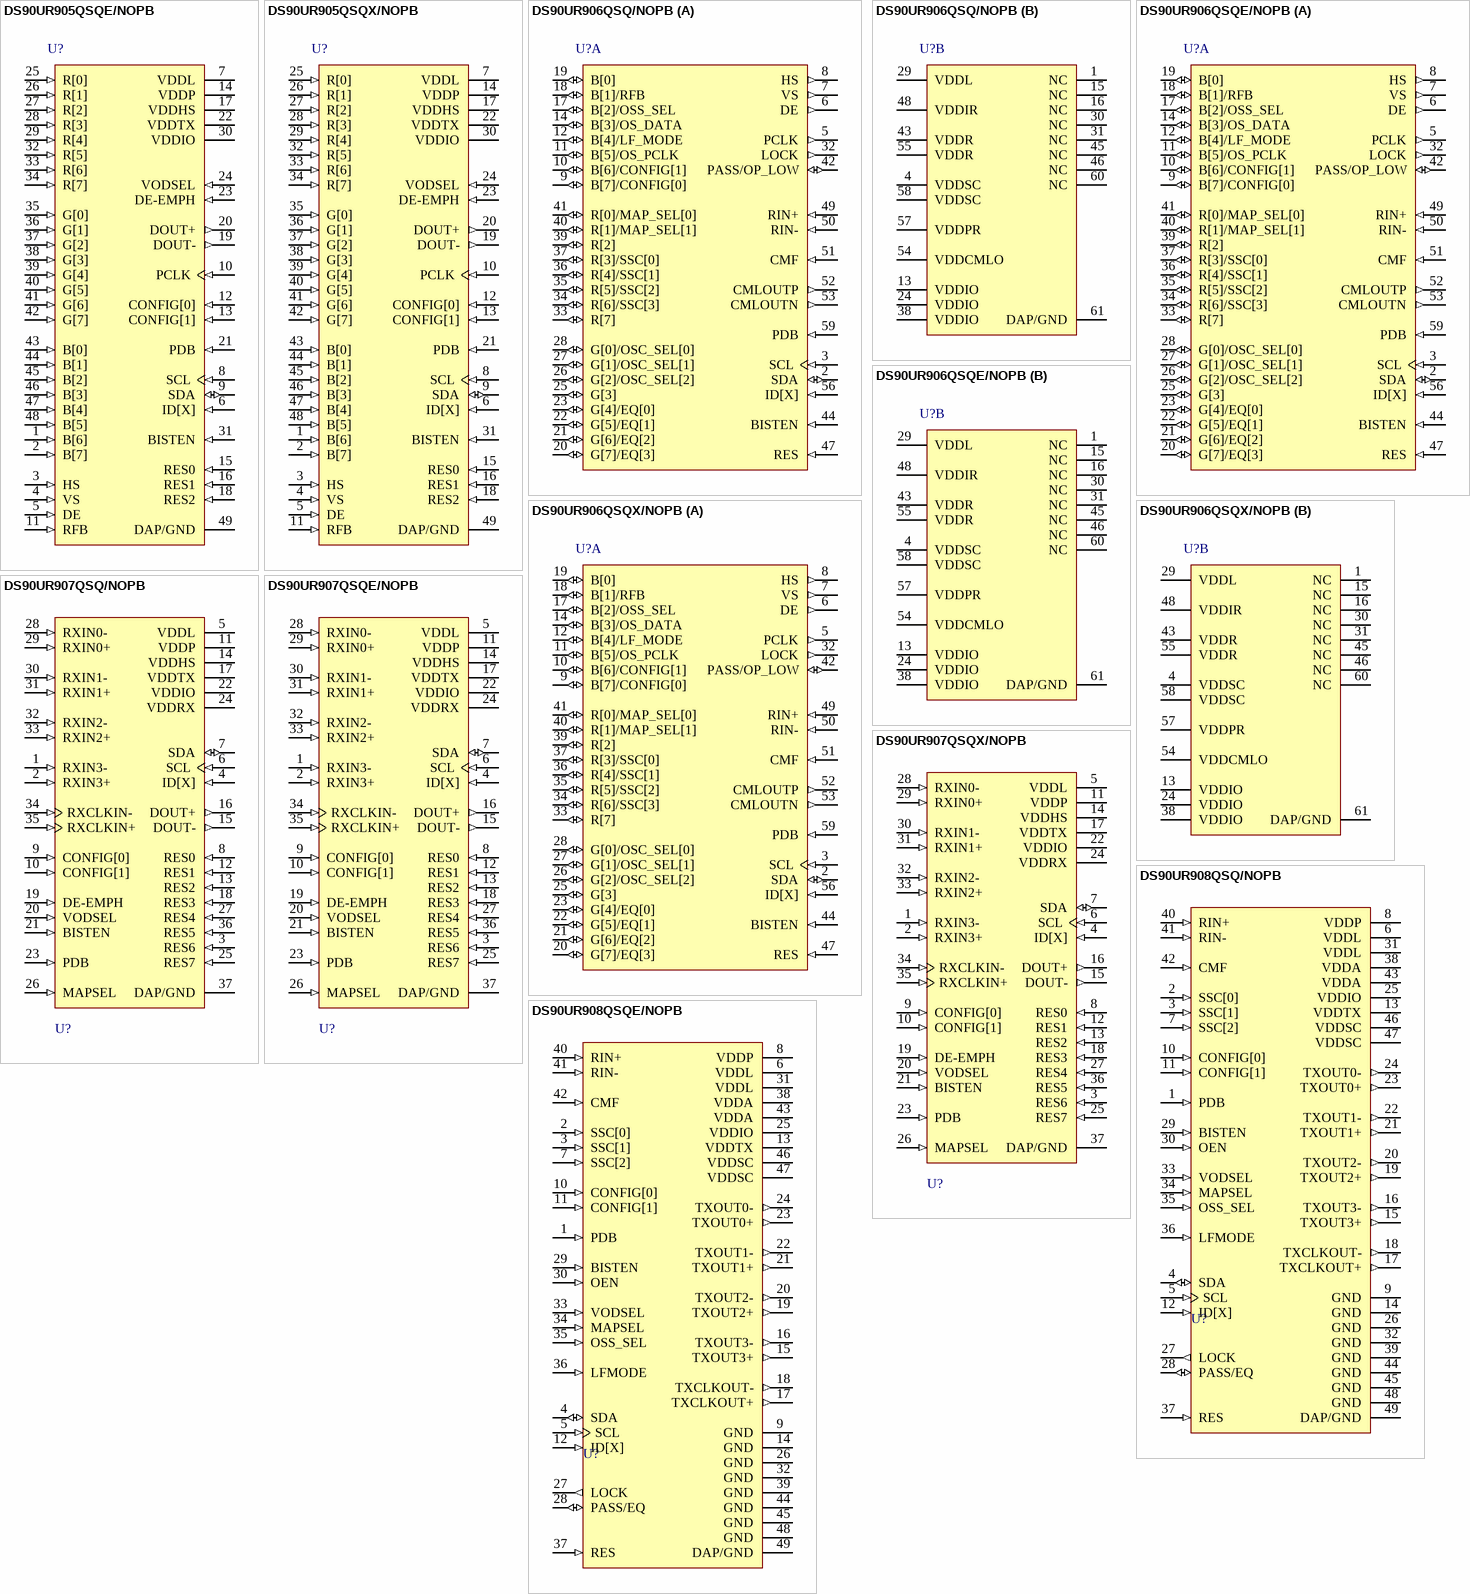
[diagram p62: symbols DS90UR905QSQE/NOPB to DS90UR908QSQE/NOPB]

## DS90UR905QSQE/NOPB
designator U?
5-65MHz 24-bit Color FPD-Link II Serializer, 48 pin LLP; PartNumber: DS90UR905QSQE/NOPB; Manufacturer: National Semiconductor; PackageTopMarking: NS*UZXYTTE#*UR905QSQ; PowerWise: Y; CompType: Interface IC; Published: 16-Nov-2010; DatasheetVersion: May-2010; PackageVersion: revB, May-2009; PackageReference: SQA48A; Publisher: Altium Limited; PackageDescription: LLP, Plastic, Quad, 7 x 7 x 0.8mm Body, 48 Lead, 0.5mm Pitch, No Pullback; Supplier 1: Digi-Key; Supplier Part Number 1: DS90UR905QSQETR-ND; Supplier 2: Digi-Key; Supplier Part Number 2: DS90UR905QSQECT-ND; Supplier 3: Digi-Key; Supplier Part Number 3: DS90UR905QSQEDKR-ND; RoHS: Y; PinCount: 48; Code_JEDEC: MO-220-WKKD-2; ComponentLink1Description: DS90UR905Q Datasheet; ComponentLink1URL: http://www.national.com/ds/DS/DS90UR905Q.pdf; ComponentLink2Description: DS90UR905Q Web Page; ComponentLink2URL: http://www.national.com/pf/DS/DS90UR905Q.html; ComponentLink3Description: SQA48A Package Page; ComponentLink3URL: http://www.national.com/packaging/folders/sqa48a.html
footprint SQA48A (QFN, 48-Leads, Body 7x7mm, Pitch 0.5mm, NSC Recommended)
pins: 1 B[6] (in), 2 B[7] (in), 3 HS (in), 4 VS (in), 5 DE (in), 6 ID[X] (in), 7 VDDL (power), 8 SCL (in), 9 SDA (io), 10 PCLK (in), 11 RFB (in), 12 CONFIG[0] (in), 13 CONFIG[1] (in), 14 VDDP (power), 15 RES0 (in), 16 RES1 (in), 17 VDDHS (power), 18 RES2 (in), 19 DOUT- (out), 20 DOUT+ (out), 21 PDB (in), 22 VDDTX (power), 23 DE-EMPH (in), 24 VODSEL (in), 25 R[0] (in), 26 R[1] (in), 27 R[2] (in), 28 R[3] (in), 29 R[4] (in), 30 VDDIO (power), 31 BISTEN (in), 32 R[5] (in), 33 R[6] (in), 34 R[7] (in), 35 G[0] (in), 36 G[1] (in), 37 G[2] (in), 38 G[3] (in), 39 G[4] (in), 40 G[5] (in), 41 G[6] (in), 42 G[7] (in), 43 B[0] (in), 44 B[1] (in), 45 B[2] (in), 46 B[3] (in), 47 B[4] (in), 48 B[5] (in), 49 DAP/GND (power)

## DS90UR905QSQX/NOPB
designator U?
5-65MHz 24-bit Color FPD-Link II Serializer, 48 pin LLP; PartNumber: DS90UR905QSQX/NOPB; Manufacturer: National Semiconductor; PackageTopMarking: NS*UZXYTTE#*UR905QSQ; PowerWise: Y; CompType: Interface IC; Published: 16-Nov-2010; DatasheetVersion: May-2010; PackageVersion: revB, May-2009; PackageReference: SQA48A; Publisher: Altium Limited; PackageDescription: LLP, Plastic, Quad, 7 x 7 x 0.8mm Body, 48 Lead, 0.5mm Pitch, No Pullback; RoHS: Y; PinCount: 48; Code_JEDEC: MO-220-WKKD-2; ComponentLink1Description: DS90UR905Q Datasheet; ComponentLink1URL: http://www.national.com/ds/DS/DS90UR905Q.pdf; ComponentLink2Description: DS90UR905Q Web Page; ComponentLink2URL: http://www.national.com/pf/DS/DS90UR905Q.html; ComponentLink3Description: SQA48A Package Page; ComponentLink3URL: http://www.national.com/packaging/folders/sqa48a.html
footprint SQA48A (QFN, 48-Leads, Body 7x7mm, Pitch 0.5mm, NSC Recommended)
pins: 1 B[6] (in), 2 B[7] (in), 3 HS (in), 4 VS (in), 5 DE (in), 6 ID[X] (in), 7 VDDL (power), 8 SCL (in), 9 SDA (io), 10 PCLK (in), 11 RFB (in), 12 CONFIG[0] (in), 13 CONFIG[1] (in), 14 VDDP (power), 15 RES0 (in), 16 RES1 (in), 17 VDDHS (power), 18 RES2 (in), 19 DOUT- (out), 20 DOUT+ (out), 21 PDB (in), 22 VDDTX (power), 23 DE-EMPH (in), 24 VODSEL (in), 25 R[0] (in), 26 R[1] (in), 27 R[2] (in), 28 R[3] (in), 29 R[4] (in), 30 VDDIO (power), 31 BISTEN (in), 32 R[5] (in), 33 R[6] (in), 34 R[7] (in), 35 G[0] (in), 36 G[1] (in), 37 G[2] (in), 38 G[3] (in), 39 G[4] (in), 40 G[5] (in), 41 G[6] (in), 42 G[7] (in), 43 B[0] (in), 44 B[1] (in), 45 B[2] (in), 46 B[3] (in), 47 B[4] (in), 48 B[5] (in), 49 DAP/GND (power)

## DS90UR906QSQ/NOPB
designator U?
5-65MHz 24-bit Color FPD-Link II Deserializer, 60 pin LLP; PartNumber: DS90UR906QSQ/NOPB; Manufacturer: National Semiconductor; PackageTopMarking: NS*UZXYTTE#*UR906QSQ; PowerWise: Y; CompType: Interface IC; Published: 16-Nov-2010; DatasheetVersion: May-2010; PackageVersion: revB, Jun-2009; PackageReference: SQA60B; Publisher: Altium Limited; PackageDescription: LLP, Quad, 9 x 9 x 0.8mm Body, 60 Lead, 0.5 mm Pitch, No Pullback, 6.3 x 6.3 mm Exposed Pad; RoHS: Y; PinCount: 60; ComponentLink1Description: DS90UR906Q Datasheet; ComponentLink1URL: http://www.national.com/ds/DS/DS90UR906Q.pdf; ComponentLink2Description: DS90UR906Q Web Page; ComponentLink2URL: http://www.national.com/pf/DS/DS90UR906Q.html; ComponentLink3Description: SQA60B Package Page; ComponentLink3URL: http://www.national.com/packaging/folders/sqa60b.html
footprint SQA60B (QFN, 60-Leads, Body 9x9mm, Pitch 0.5mm, NSC Recommended)
part A pins: 2 SDA (io), 3 SCL (in), 5 PCLK (out), 6 DE (out), 7 VS (out), 8 HS (out), 9 B[7]/CONFIG[0] (io), 10 B[6]/CONFIG[1] (io), 11 B[5]/OS_PCLK (io), 12 B[4]/LF_MODE (io), 14 B[3]/OS_DATA (io), 17 B[2]/OSS_SEL (io), 18 B[1]/RFB (io), 19 B[0] (io), 20 G[7]/EQ[3] (io), 21 G[6]/EQ[2] (io), 22 G[5]/EQ[1] (io), 23 G[4]/EQ[0] (io), 25 G[3] (io), 26 G[2]/OSC_SEL[2] (io), 27 G[1]/OSC_SEL[1] (io), 28 G[0]/OSC_SEL[0] (io), 32 LOCK (out), 33 R[7] (io), 34 R[6]/SSC[3] (io), 35 R[5]/SSC[2] (io), 36 R[4]/SSC[1] (io), 37 R[3]/SSC[0] (io), 39 R[2] (io), 40 R[1]/MAP_SEL[1] (io), 41 R[0]/MAP_SEL[0] (io), 42 PASS/OP_LOW (io), 44 BISTEN (in), 47 RES (in), 49 RIN+ (in), 50 RIN- (in), 51 CMF (in), 52 CMLOUTP (out), 53 CMLOUTN (out), 56 ID[X] (in), 59 PDB (in)
part B pins: 1 NC, 4 VDDSC (power), 13 VDDIO (power), 15 NC, 16 NC, 24 VDDIO (power), 29 VDDL (power), 30 NC, 31 NC, 38 VDDIO (power), 43 VDDR (power), 45 NC, 46 NC, 48 VDDIR (power), 54 VDDCMLO (power), 55 VDDR (power), 57 VDDPR (power), 58 VDDSC (power), 60 NC, 61 DAP/GND (power)

## DS90UR906QSQE/NOPB
designator U?
5-65MHz 24-bit Color FPD-Link II Deserializer, 60 pin LLP; PartNumber: DS90UR906QSQE/NOPB; Manufacturer: National Semiconductor; PackageTopMarking: NS*UZXYTTE#*UR906QSQ; PowerWise: Y; CompType: Interface IC; Published: 16-Nov-2010; DatasheetVersion: May-2010; PackageVersion: revB, Jun-2009; PackageReference: SQA60B; Publisher: Altium Limited; PackageDescription: LLP, Quad, 9 x 9 x 0.8mm Body, 60 Lead, 0.5 mm Pitch, No Pullback, 6.3 x 6.3 mm Exposed Pad; RoHS: Y; PinCount: 60; ComponentLink1Description: DS90UR906Q Datasheet; ComponentLink1URL: http://www.national.com/ds/DS/DS90UR906Q.pdf; ComponentLink2Description: DS90UR906Q Web Page; ComponentLink2URL: http://www.national.com/pf/DS/DS90UR906Q.html; ComponentLink3Description: SQA60B Package Page; ComponentLink3URL: http://www.national.com/packaging/folders/sqa60b.html
footprint SQA60B (QFN, 60-Leads, Body 9x9mm, Pitch 0.5mm, NSC Recommended)
part A pins: 2 SDA (io), 3 SCL (in), 5 PCLK (out), 6 DE (out), 7 VS (out), 8 HS (out), 9 B[7]/CONFIG[0] (io), 10 B[6]/CONFIG[1] (io), 11 B[5]/OS_PCLK (io), 12 B[4]/LF_MODE (io), 14 B[3]/OS_DATA (io), 17 B[2]/OSS_SEL (io), 18 B[1]/RFB (io), 19 B[0] (io), 20 G[7]/EQ[3] (io), 21 G[6]/EQ[2] (io), 22 G[5]/EQ[1] (io), 23 G[4]/EQ[0] (io), 25 G[3] (io), 26 G[2]/OSC_SEL[2] (io), 27 G[1]/OSC_SEL[1] (io), 28 G[0]/OSC_SEL[0] (io), 32 LOCK (out), 33 R[7] (io), 34 R[6]/SSC[3] (io), 35 R[5]/SSC[2] (io), 36 R[4]/SSC[1] (io), 37 R[3]/SSC[0] (io), 39 R[2] (io), 40 R[1]/MAP_SEL[1] (io), 41 R[0]/MAP_SEL[0] (io), 42 PASS/OP_LOW (io), 44 BISTEN (in), 47 RES (in), 49 RIN+ (in), 50 RIN- (in), 51 CMF (in), 52 CMLOUTP (out), 53 CMLOUTN (out), 56 ID[X] (in), 59 PDB (in)
part B pins: 1 NC, 4 VDDSC (power), 13 VDDIO (power), 15 NC, 16 NC, 24 VDDIO (power), 29 VDDL (power), 30 NC, 31 NC, 38 VDDIO (power), 43 VDDR (power), 45 NC, 46 NC, 48 VDDIR (power), 54 VDDCMLO (power), 55 VDDR (power), 57 VDDPR (power), 58 VDDSC (power), 60 NC, 61 DAP/GND (power)

## DS90UR906QSQX/NOPB
designator U?
5-65MHz 24-bit Color FPD-Link II Deserializer, 60 pin LLP; PartNumber: DS90UR906QSQX/NOPB; Manufacturer: National Semiconductor; PackageTopMarking: NS*UZXYTTE#*UR906QSQ; PowerWise: Y; CompType: Interface IC; Published: 16-Nov-2010; DatasheetVersion: May-2010; PackageVersion: revB, Jun-2009; PackageReference: SQA60B; Publisher: Altium Limited; PackageDescription: LLP, Quad, 9 x 9 x 0.8mm Body, 60 Lead, 0.5 mm Pitch, No Pullback, 6.3 x 6.3 mm Exposed Pad; RoHS: Y; PinCount: 60; ComponentLink1Description: DS90UR906Q Datasheet; ComponentLink1URL: http://www.national.com/ds/DS/DS90UR906Q.pdf; ComponentLink2Description: DS90UR906Q Web Page; ComponentLink2URL: http://www.national.com/pf/DS/DS90UR906Q.html; ComponentLink3Description: SQA60B Package Page; ComponentLink3URL: http://www.national.com/packaging/folders/sqa60b.html
footprint SQA60B (QFN, 60-Leads, Body 9x9mm, Pitch 0.5mm, NSC Recommended)
part A pins: 2 SDA (io), 3 SCL (in), 5 PCLK (out), 6 DE (out), 7 VS (out), 8 HS (out), 9 B[7]/CONFIG[0] (io), 10 B[6]/CONFIG[1] (io), 11 B[5]/OS_PCLK (io), 12 B[4]/LF_MODE (io), 14 B[3]/OS_DATA (io), 17 B[2]/OSS_SEL (io), 18 B[1]/RFB (io), 19 B[0] (io), 20 G[7]/EQ[3] (io), 21 G[6]/EQ[2] (io), 22 G[5]/EQ[1] (io), 23 G[4]/EQ[0] (io), 25 G[3] (io), 26 G[2]/OSC_SEL[2] (io), 27 G[1]/OSC_SEL[1] (io), 28 G[0]/OSC_SEL[0] (io), 32 LOCK (out), 33 R[7] (io), 34 R[6]/SSC[3] (io), 35 R[5]/SSC[2] (io), 36 R[4]/SSC[1] (io), 37 R[3]/SSC[0] (io), 39 R[2] (io), 40 R[1]/MAP_SEL[1] (io), 41 R[0]/MAP_SEL[0] (io), 42 PASS/OP_LOW (io), 44 BISTEN (in), 47 RES (in), 49 RIN+ (in), 50 RIN- (in), 51 CMF (in), 52 CMLOUTP (out), 53 CMLOUTN (out), 56 ID[X] (in), 59 PDB (in)
part B pins: 1 NC, 4 VDDSC (power), 13 VDDIO (power), 15 NC, 16 NC, 24 VDDIO (power), 29 VDDL (power), 30 NC, 31 NC, 38 VDDIO (power), 43 VDDR (power), 45 NC, 46 NC, 48 VDDIR (power), 54 VDDCMLO (power), 55 VDDR (power), 57 VDDPR (power), 58 VDDSC (power), 60 NC, 61 DAP/GND (power)

## DS90UR907QSQ/NOPB
designator U?
5-65 MHz 24-bit Color FPD-Link to FPD-Link II Converter, 36 pin LLP; PartNumber: DS90UR907QSQ/NOPB; Manufacturer: National Semiconductor; PackageTopMarking: NS*UZXYTTE#*UR907QSQ; PowerWise: Y; CompType: Interface IC; Published: 16-Nov-2010; DatasheetVersion: Jul-2010; PackageVersion: revA, Jun-2003; PackageReference: SQA36A; Publisher: Altium Limited; PackageDescription: LLP, Plastic, Quad, 6 x 6 x 0.8mm Body, 36 Lead, 0.5mm Pitch, No Pullback; RoHS: Y; PinCount: 36; ComponentLink1Description: DS90UR907Q Datasheet; ComponentLink1URL: http://www.national.com/ds/DS/DS90UR907Q.pdf; ComponentLink2Description: DS90UR907Q Web Page; ComponentLink2URL: http://www.national.com/pf/DS/DS90UR907Q.html; ComponentLink3Description: SQA36A Package Page; ComponentLink3URL: http://www.national.com/packaging/folders/sqa36a.html
footprint SQA36A (QFN, 36-Leads, Body 6x6mm, Pitch 0.5mm, NSC Recommended)
pins: 1 RXIN3- (in), 2 RXIN3+ (in), 3 RES6 (in), 4 ID[X] (in), 5 VDDL (power), 6 SCL (in), 7 SDA (io), 8 RES0 (in), 9 CONFIG[0] (in), 10 CONFIG[1] (in), 11 VDDP (power), 12 RES1 (in), 13 RES2 (in), 14 VDDHS (power), 15 DOUT- (out), 16 DOUT+ (out), 17 VDDTX (power), 18 RES3 (in), 19 DE-EMPH (in), 20 VODSEL (in), 21 BISTEN (in), 22 VDDIO (power), 23 PDB (in), 24 VDDRX (power), 25 RES7 (in), 26 MAPSEL (in), 27 RES4 (in), 28 RXIN0- (in), 29 RXIN0+ (in), 30 RXIN1- (in), 31 RXIN1+ (in), 32 RXIN2- (in), 33 RXIN2+ (in), 34 RXCLKIN- (in), 35 RXCLKIN+ (in), 36 RES5 (in), 37 DAP/GND (power)

## DS90UR907QSQE/NOPB
designator U?
5-65 MHz 24-bit Color FPD-Link to FPD-Link II Converter, 36 pin LLP; PartNumber: DS90UR907QSQE/NOPB; Manufacturer: National Semiconductor; PackageTopMarking: NS*UZXYTTE#*UR907QSQ; PowerWise: Y; CompType: Interface IC; Published: 16-Nov-2010; DatasheetVersion: Jul-2010; PackageVersion: revA, Jun-2003; PackageReference: SQA36A; Publisher: Altium Limited; PackageDescription: LLP, Plastic, Quad, 6 x 6 x 0.8mm Body, 36 Lead, 0.5mm Pitch, No Pullback; RoHS: Y; PinCount: 36; ComponentLink1Description: DS90UR907Q Datasheet; ComponentLink1URL: http://www.national.com/ds/DS/DS90UR907Q.pdf; ComponentLink2Description: DS90UR907Q Web Page; ComponentLink2URL: http://www.national.com/pf/DS/DS90UR907Q.html; ComponentLink3Description: SQA36A Package Page; ComponentLink3URL: http://www.national.com/packaging/folders/sqa36a.html
footprint SQA36A (QFN, 36-Leads, Body 6x6mm, Pitch 0.5mm, NSC Recommended)
pins: 1 RXIN3- (in), 2 RXIN3+ (in), 3 RES6 (in), 4 ID[X] (in), 5 VDDL (power), 6 SCL (in), 7 SDA (io), 8 RES0 (in), 9 CONFIG[0] (in), 10 CONFIG[1] (in), 11 VDDP (power), 12 RES1 (in), 13 RES2 (in), 14 VDDHS (power), 15 DOUT- (out), 16 DOUT+ (out), 17 VDDTX (power), 18 RES3 (in), 19 DE-EMPH (in), 20 VODSEL (in), 21 BISTEN (in), 22 VDDIO (power), 23 PDB (in), 24 VDDRX (power), 25 RES7 (in), 26 MAPSEL (in), 27 RES4 (in), 28 RXIN0- (in), 29 RXIN0+ (in), 30 RXIN1- (in), 31 RXIN1+ (in), 32 RXIN2- (in), 33 RXIN2+ (in), 34 RXCLKIN- (in), 35 RXCLKIN+ (in), 36 RES5 (in), 37 DAP/GND (power)

## DS90UR907QSQX/NOPB
designator U?
5-65 MHz 24-bit Color FPD-Link to FPD-Link II Converter, 36 pin LLP; PartNumber: DS90UR907QSQX/NOPB; Manufacturer: National Semiconductor; PackageTopMarking: NS*UZXYTTE#*UR907QSQ; PowerWise: Y; CompType: Interface IC; Published: 16-Nov-2010; DatasheetVersion: Jul-2010; PackageVersion: revA, Jun-2003; PackageReference: SQA36A; Publisher: Altium Limited; PackageDescription: LLP, Plastic, Quad, 6 x 6 x 0.8mm Body, 36 Lead, 0.5mm Pitch, No Pullback; RoHS: Y; PinCount: 36; ComponentLink1Description: DS90UR907Q Datasheet; ComponentLink1URL: http://www.national.com/ds/DS/DS90UR907Q.pdf; ComponentLink2Description: DS90UR907Q Web Page; ComponentLink2URL: http://www.national.com/pf/DS/DS90UR907Q.html; ComponentLink3Description: SQA36A Package Page; ComponentLink3URL: http://www.national.com/packaging/folders/sqa36a.html
footprint SQA36A (QFN, 36-Leads, Body 6x6mm, Pitch 0.5mm, NSC Recommended)
pins: 1 RXIN3- (in), 2 RXIN3+ (in), 3 RES6 (in), 4 ID[X] (in), 5 VDDL (power), 6 SCL (in), 7 SDA (io), 8 RES0 (in), 9 CONFIG[0] (in), 10 CONFIG[1] (in), 11 VDDP (power), 12 RES1 (in), 13 RES2 (in), 14 VDDHS (power), 15 DOUT- (out), 16 DOUT+ (out), 17 VDDTX (power), 18 RES3 (in), 19 DE-EMPH (in), 20 VODSEL (in), 21 BISTEN (in), 22 VDDIO (power), 23 PDB (in), 24 VDDRX (power), 25 RES7 (in), 26 MAPSEL (in), 27 RES4 (in), 28 RXIN0- (in), 29 RXIN0+ (in), 30 RXIN1- (in), 31 RXIN1+ (in), 32 RXIN2- (in), 33 RXIN2+ (in), 34 RXCLKIN- (in), 35 RXCLKIN+ (in), 36 RES5 (in), 37 DAP/GND (power)

## DS90UR908QSQ/NOPB
designator U?
5-65 MHz 24-bit Color FPD-Link II to FPD-Link Converter, 48 pin LLP; PartNumber: DS90UR908QSQ/NOPB; Manufacturer: National Semiconductor; PackageTopMarking: NS*UZXYTTE#*90UR908Q; PowerWise: Y; CompType: Interface IC; Published: 16-Nov-2010; DatasheetVersion: Aug-2010; PackageVersion: revA, Jul-2004; PackageReference: SQA48D; Publisher: Altium Limited; PackageDescription: LLP, Quad, 7 x 7 x 0.8mm, 48 Lead, 0.5mm Pitch, 4.1 x 4.1 Exposed Pad; RoHS: Y; PinCount: 48; ComponentLink1Description: DS90UR908Q Datasheet; ComponentLink1URL: http://www.national.com/ds/DS/DS90UR908Q.pdf; ComponentLink2Description: DS90UR908Q Web Page; ComponentLink2URL: http://www.national.com/pf/DS/DS90UR908Q.html; ComponentLink3Description: SQA48D Package Page; ComponentLink3URL: http://www.national.com/packaging/folders/sqa48d.html
footprint SQA48D (QFN, 48-Leads, Body 7x7mm, Pitch 0.5mm, NSC Recommended)
pins: 1 PDB (in), 2 SSC[0] (in), 3 SSC[1] (in), 4 SDA (io), 5 SCL (in), 6 VDDL (power), 7 SSC[2] (in), 8 VDDP (power), 9 GND (power), 10 CONFIG[0] (in), 11 CONFIG[1] (in), 12 ID[X] (in), 13 VDDTX (power), 14 GND (power), 15 TXOUT3+ (out), 16 TXOUT3- (out), 17 TXCLKOUT+ (out), 18 TXCLKOUT- (out), 19 TXOUT2+ (out), 20 TXOUT2- (out), 21 TXOUT1+ (out), 22 TXOUT1- (out), 23 TXOUT0+ (out), 24 TXOUT0- (out), 25 VDDIO (power), 26 GND (power), 27 LOCK (out), 28 PASS/EQ (io), 29 BISTEN (in), 30 OEN (in), 31 VDDL (power), 32 GND (power), 33 VODSEL (in), 34 MAPSEL (in), 35 OSS_SEL (in), 36 LFMODE (in), 37 RES (in), 38 VDDA (power), 39 GND (power), 40 RIN+ (in), 41 RIN- (in), 42 CMF (in), 43 VDDA (power), 44 GND (power), 45 GND (power), 46 VDDSC (power), 47 VDDSC (power), 48 GND (power), 49 DAP/GND (power)

## DS90UR908QSQE/NOPB
designator U?
5-65 MHz 24-bit Color FPD-Link II to FPD-Link Converter, 48 pin LLP; PartNumber: DS90UR908QSQE/NOPB; Manufacturer: National Semiconductor; PackageTopMarking: NS*UZXYTTE#*90UR908Q; PowerWise: Y; CompType: Interface IC; Published: 16-Nov-2010; DatasheetVersion: Aug-2010; PackageVersion: revA, Jul-2004; PackageReference: SQA48D; Publisher: Altium Limited; PackageDescription: LLP, Quad, 7 x 7 x 0.8mm, 48 Lead, 0.5mm Pitch, 4.1 x 4.1 Exposed Pad; RoHS: Y; PinCount: 48; ComponentLink1Description: DS90UR908Q Datasheet; ComponentLink1URL: http://www.national.com/ds/DS/DS90UR908Q.pdf; ComponentLink2Description: DS90UR908Q Web Page; ComponentLink2URL: http://www.national.com/pf/DS/DS90UR908Q.html; ComponentLink3Description: SQA48D Package Page; ComponentLink3URL: http://www.national.com/packaging/folders/sqa48d.html
footprint SQA48D (QFN, 48-Leads, Body 7x7mm, Pitch 0.5mm, NSC Recommended)
pins: 1 PDB (in), 2 SSC[0] (in), 3 SSC[1] (in), 4 SDA (io), 5 SCL (in), 6 VDDL (power), 7 SSC[2] (in), 8 VDDP (power), 9 GND (power), 10 CONFIG[0] (in), 11 CONFIG[1] (in), 12 ID[X] (in), 13 VDDTX (power), 14 GND (power), 15 TXOUT3+ (out), 16 TXOUT3- (out), 17 TXCLKOUT+ (out), 18 TXCLKOUT- (out), 19 TXOUT2+ (out), 20 TXOUT2- (out), 21 TXOUT1+ (out), 22 TXOUT1- (out), 23 TXOUT0+ (out), 24 TXOUT0- (out), 25 VDDIO (power), 26 GND (power), 27 LOCK (out), 28 PASS/EQ (io), 29 BISTEN (in), 30 OEN (in), 31 VDDL (power), 32 GND (power), 33 VODSEL (in), 34 MAPSEL (in), 35 OSS_SEL (in), 36 LFMODE (in), 37 RES (in), 38 VDDA (power), 39 GND (power), 40 RIN+ (in), 41 RIN- (in), 42 CMF (in), 43 VDDA (power), 44 GND (power), 45 GND (power), 46 VDDSC (power), 47 VDDSC (power), 48 GND (power), 49 DAP/GND (power)

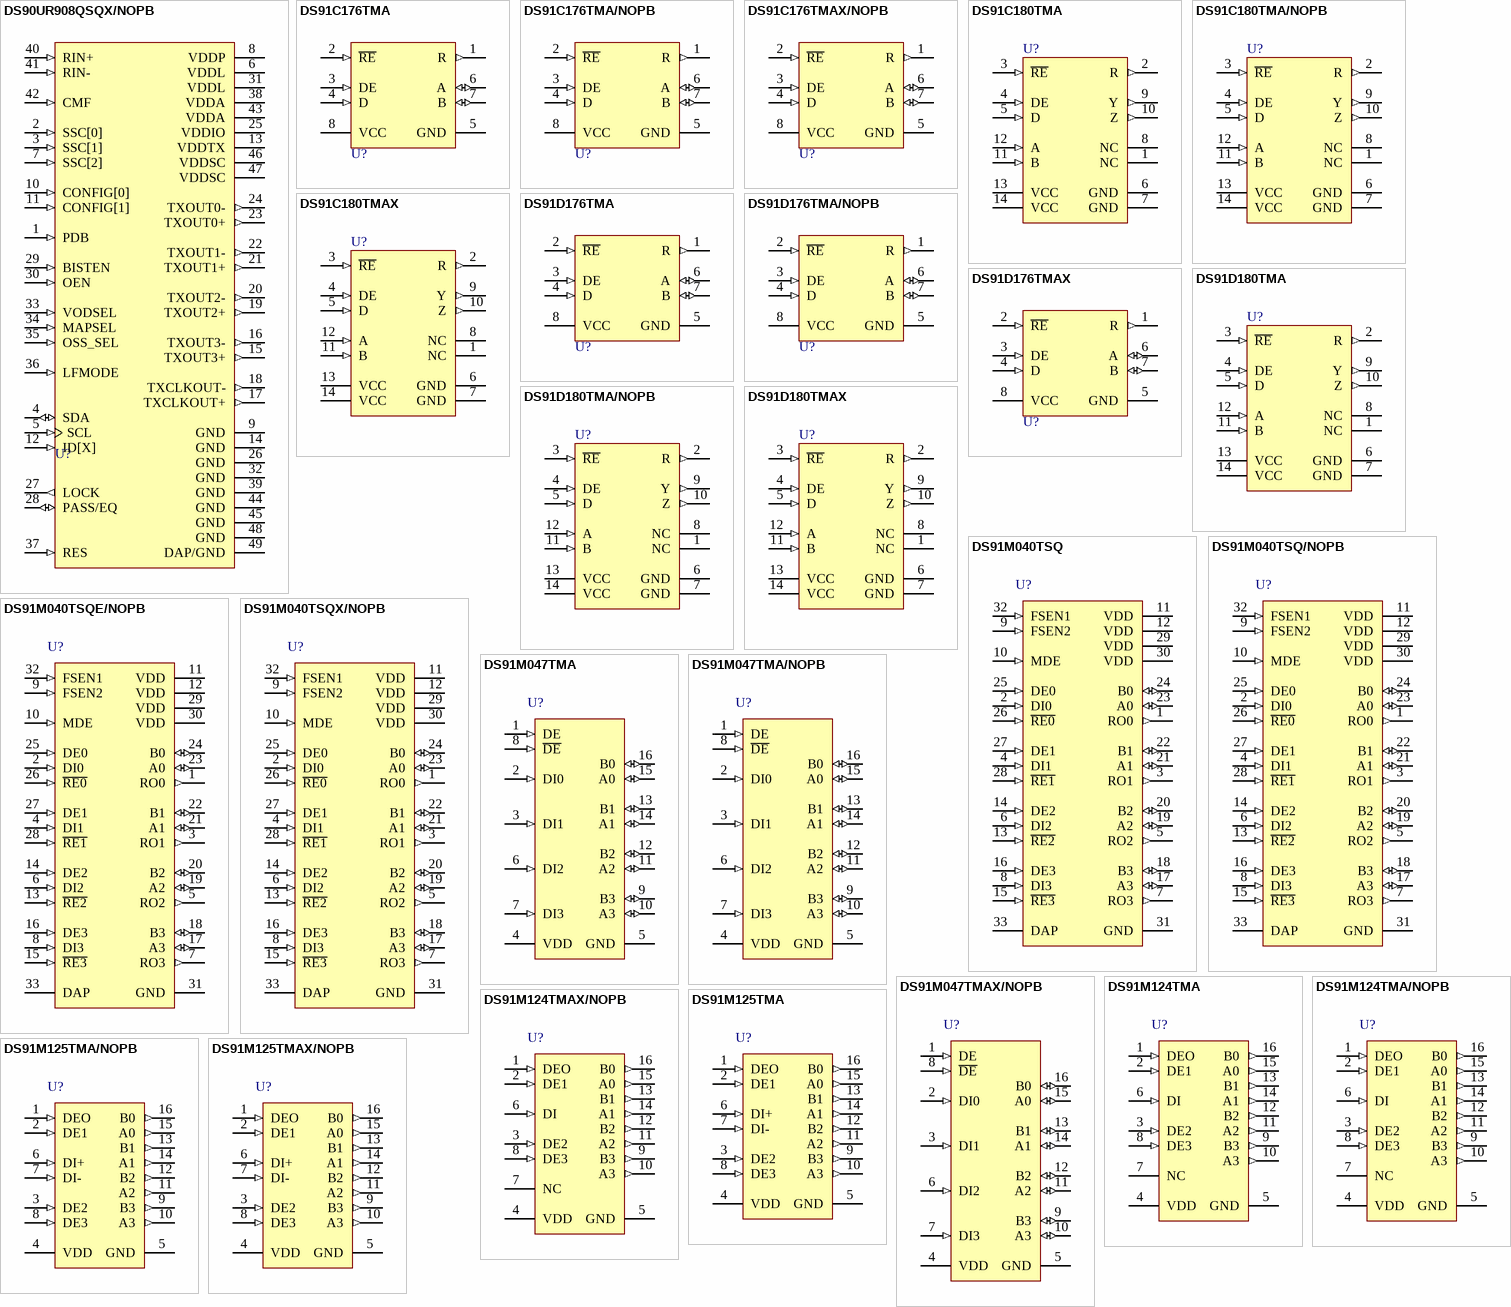
[diagram p63: symbols DS90UR908QSQX/NOPB to DS91M125TMAX/NOPB]